# EAGLE library part MOLEX_SL_27 (library molex-sl-connectors_jw)
Molex SL-Series PCB Header, 27-Pos, 0.1" (2.54mm) Centers
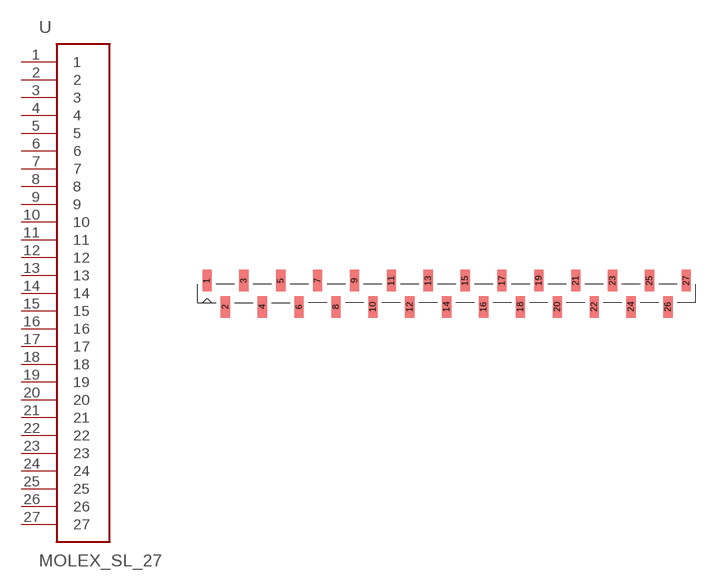
[diagram p21: symbol with the pads of SL_87898_27; footprint SL_87898_27]

Designator prefix -

## MOLEX_SL_27-87898  [SL_87898_27]
1  1
2  2
3  3
4  4
5  5
6  6
7  7
8  8
9  9
10  10
11  11
12  12
13  13
14  14
15  15
16  16
17  17
18  18
19  19
20  20
21  21
22  22
23  23
24  24
25  25
26  26
27  27

## Footprint SL_87898_27 (pad centres in mm)
SMD Vertical Header (no latch or pegs) Package also includes Pick-N-Place Cap Tube packaging w/o Pick-N-Place Cap: 87898-2721 87898-2722 87898-2724 87898-2725 87898-2726 Tube packaging w/ Pick-N-Place Cap: 87898-2731 87898-2732 87898-2734 87898-2735 87898-2736
smd 1.27 x 2.946: 1 -33.02,1.803; 2 -30.48,-1.803; 3 -27.94,1.803; 4 -25.4,-1.803; 5 -22.86,1.803; 6 -20.32,-1.803; 7 -17.78,1.803; 8 -15.24,-1.803; 9 -12.7,1.803; 10 -10.16,-1.803; 11 -7.62,1.803; 12 -5.08,-1.803; 13 -2.54,1.803; 14 0,-1.803; 15 2.54,1.803; 16 5.08,-1.803; 17 7.62,1.803; 18 10.16,-1.803; 19 12.7,1.803; 20 15.24,-1.803; 21 17.78,1.803; 22 20.32,-1.803; 23 22.86,1.803; 24 25.4,-1.803; 25 27.94,1.803; 26 30.48,-1.803; 27 33.02,1.803